# EAGLE library part 615006143421 (library Wurth_Connectors_WR-MJ)
WR-MJ Modular Jack Horizontal Half Shielded 6P6C Tab Down KIND PROPERTIES Quality Class:500 Mating cycles General Information Operating Temperature:-40 up to +85 °C Compliance: RoHS Electrical Properties IR 1:1.5A Working Voltage:120V (AC) Withstanding Voltage:1000V (AC) Contact Resistance:20mΩ RISO:500 MΩ Material Properties Insulator MateriaL:PBT Insulator Flammability Rating:UL94 V-0 Color:Black Contact Material Copper Alloy Contact Plating:Selective Gold Contact Type:Stamped Shielding Material:Bronze Shielding Plating:Nickel Packaging Properties Packaging:Tray <https://www.we-online.com/catalog/media/o33120v209%20Family_WR-MJ_615006143421.jpg> Details see: https://www.we-online.com/catalog/en/MJ_HORIZONTAL_HALF_SHIELDED_6P6C_TAB_DOWN/ Updated by Yingchun,Shan 2020-01-03 2020 (C) Würth Elektronik
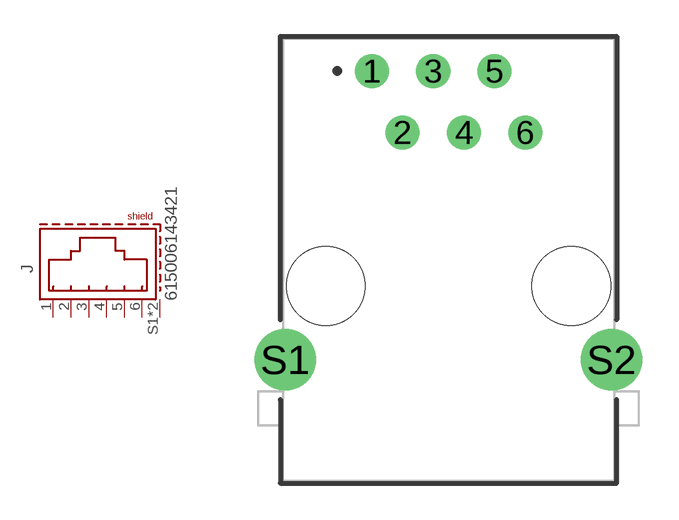
[diagram p11: symbol with the pads of 615006143421; footprint 615006143421]

Designator prefix J

## 615006143421 (DATASHEET-URL: https://www.we-online.com/redexpert/spec/615006143421?ae; MOUNT: THT; PART-NUMBER: 615006143421; TYPE: Horizontal; VALUE: 615006143421; XPXC: 6P6C)  [615006143421]
1  6  pas
2  5  pas
3  4  pas
4  3  pas
5  2  pas
6  1  pas
S1  SHIELD  pas
S2  SHIELD  pas

## Footprint 615006143421 (pad centres in mm)
WR-MJ Horizontal 6P6C Half Shielded Modular Jack Tab Down, 6 Pins
drill 0.9: 1 -3.175,7.81; 2 -1.905,5.27; 3 -0.635,7.81; 4 0.635,5.27; 5 1.905,7.81; 6 3.175,5.27
drill 1.7: S1 -6.75,-4.13; S2 6.75,-4.13
hole 3.25 at -5.08,-1.08
hole 3.25 at 5.08,-1.08